# EAGLE library part AS10-35 (library con-deutsch)
DEUTSCH Connector
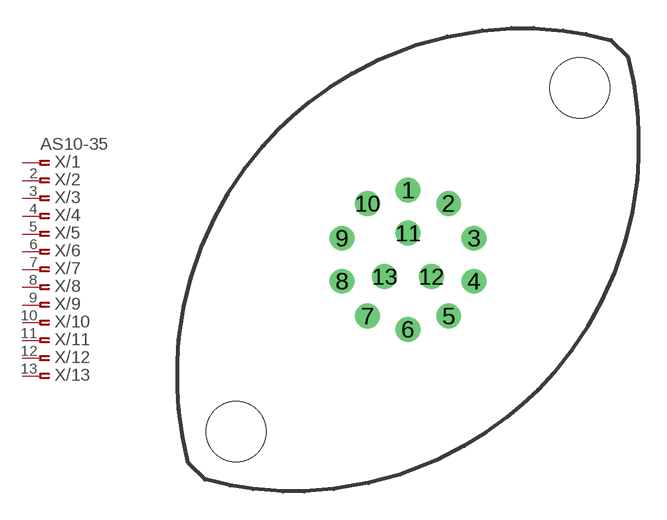
[diagram p13: symbol with the pads of AS10-35; footprint AS10-35]

Designator prefix X; gates /1=PINF_VAL /2=ASPINF /3=ASPINF /4=ASPINF /5=ASPINF /6=ASPINF /7=ASPINF /8=ASPINF /9=ASPINF /10=ASPINF /11=ASPINF /12=ASPINF /13=ASPINF

## AS10-35 (OC_FARNELL: unknown; OC_NEWARK: unknown)  [AS10-35]
1  /1:1  pas
2  /2:1  pas
3  /3:1  pas
4  /4:1  pas
5  /5:1  pas
6  /6:1  pas
7  /7:1  pas
8  /8:1  pas
9  /9:1  pas
10  /10:1  pas
11  /11:1  pas
12  /12:1  pas
13  /13:1  pas

## Footprint AS10-35 (pad centres in mm)
DEUTSCH Connector
drill 0.813: 1 0,3.708; 2 2.159,2.997; 3 3.505,1.143; 4 3.505,-1.143; 5 2.159,-2.997; 6 0,-3.708; 7 -2.159,-2.997; 8 -3.505,-1.143; 9 -3.505,1.143; 10 -2.159,2.997; 11 0,1.422; 12 1.245,-0.889; 13 -1.245,-0.889
hole 3.2 at 9.144,9.144
hole 3.2 at -9.144,-9.144